# Altium schematic symbol library 6437288-6.SchLib: 1 symbol
Pins are listed as number, name and electrical type; pins without a type are passive.

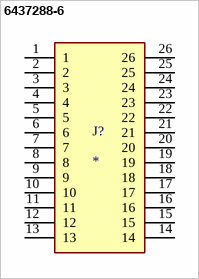
[diagram p0: symbol 6437288-6]

## 6437288-6
designator J?
Conn Wire to Board RCP 26 POS 1.5mm Solder ST Thru-Hole Automotive Tube; MP: 6437288-6; MF: TE Connectivity; Price: None; Availability: In Stock; Package: None; SnapEDA_Link: https://www.snapeda.com/parts/6437288-6/TE+Connectivity+AMP+Connectors/view-part/?ref=snap; Check_prices: https://www.snapeda.com/parts/6437288-6/TE+Connectivity+AMP+Connectors/view-part/?ref=eda; Value: *; EU_RoHS_Compliance: Compliant; Purchase-URL: https://pricing.snapeda.com/search/part/6437288-6/?ref=eda
footprint TE_6437288-6
pins: 1, 2, 3, 4, 5, 6, 7, 8, 9, 10, 11, 12, 13, 14, 15, 16, 17, 18, 19, 20, 21, 22, 23, 24, 25, 26